# Altium footprint library PCB - OPTOTRIAC.PCBLIB: 1 footprints
Each footprint in its own frame and in the unit in brackets; x right, y up, seen from the top. Pads: shape width x height; smd on the part's side, far side on the other; paste and mask are expansions set on the pad; w line width, h text height; cw(c..) or ccw(c..) is an arc to the next point about the centre after c.
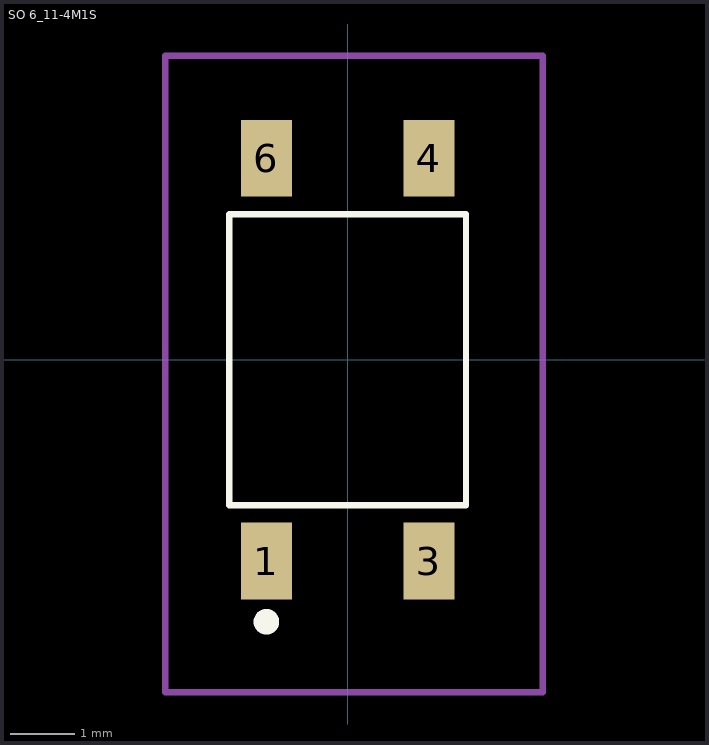
[diagram p0: the footprint, top view; thin cyan lines are the x and y axes]

## SO 6_11-4M1S [mm]
pads (4):
  rect 0.8x1.2 smd: 1(-1.27,-3.15) 3(1.27,-3.15) 4(1.27,3.15) 6(-1.27,3.15)
Top Overlay:
  lines w0.1: -1.85,-2.275 -1.85,2.275 1.85,2.275 1.85,-2.275 -1.85,-2.275
  lines w0.2: -1.37,-4.1 ccw(c-1.27,-4.1) -1.17,-4.1 ccw(c-1.27,-4.1) -1.37,-4.1
Mechanical 15:
  lines w0.1: -2.85,-5.2 -2.85,4.75 3.048,4.75 3.048,-5.2 -2.85,-5.2
3D body: height 2.1, standoff 0, extent -1.778,-2.159 1.778,2.159